# Altium footprint library 可调电阻.PcbLib: 10 footprints
Each footprint in its own frame and in the unit in brackets; x right, y up, seen from the top. Pads: shape width x height; smd on the part's side, far side on the other; paste and mask are expansions set on the pad; w line width, h text height; cw(c..) or ccw(c..) is an arc to the next point about the centre after c.
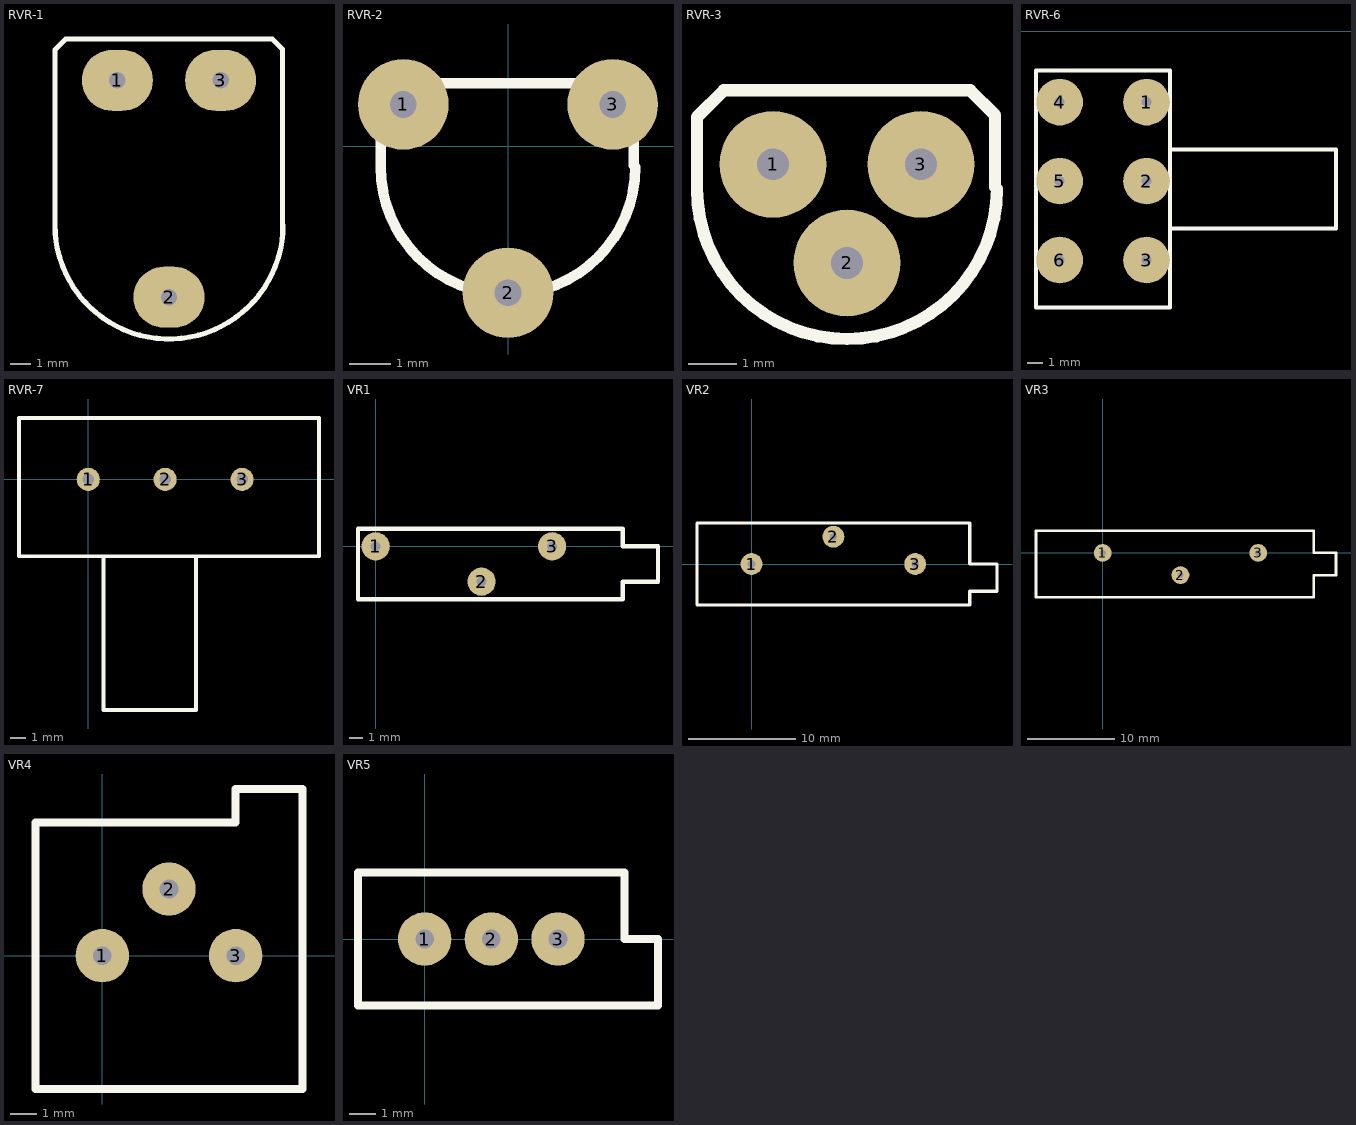
[diagram p0: the footprints below, top view; thin cyan lines are the x and y axes]

## RVR-1 [mm]
pads (3):
  oval 3.5x3 hole 0.8: 1(10.16,-4.572) 2(12.7,-15.24) 3(15.24,-4.572)
TopOverlay:
  lines w0.254: 18.288,-12.192 18.288,-3.048 17.78,-2.54 7.62,-2.54 7.089,-3.071 7.089,-11.684 ccw(c12.7,-11.684) 18.311,-11.684

## RVR-2 [mm]
pads (3):
  round 2.2 hole 0.65: 1(-2.54,1.016) 2(0,-3.556) 3(2.54,1.016)
TopOverlay:
  lines w0.254: 3.048,-0.466 3.048,1.016 2.54,1.524 -2.54,1.524 -3.09,0.974 -3.09,-0.508 ccw(c0,-0.508) 3.09,-0.508

## RVR-3 [mm]
pads (3):
  round 2.2 hole 0.65: 1(3.556,-4.064) 2(5.08,-6.096) 3(6.604,-4.064)
TopOverlay:
  lines w0.254: 8.128,-4.53 8.128,-3.048 7.62,-2.54 2.54,-2.54 1.99,-3.09 1.99,-4.572 ccw(c5.08,-4.572) 8.17,-4.572

## RVR-6 [mm]
pads (6):
  round 3 hole 0.65: 1(11.176,-4.572) 2(11.176,-9.652) 3(11.176,-14.732) 4(5.588,-4.572) 5(5.588,-9.652) 6(5.588,-14.732)
TopOverlay:
  lines w0.254: 12.7,-12.7 23.368,-12.7 23.368,-7.62 12.7,-7.62 ; 4.064,-17.78 12.7,-17.78 12.7,-2.54 4.064,-2.54 4.064,-17.78

## RVR-7 [mil]
pads (3):
  round 60 hole 30: 1(0,0) 2(200,0) 3(400,0)
TopOverlay:
  lines w10: -160,160 600,160 600,-200 -160,-200 -180,-200 -180,160 -120,160 ; 40,-200 40,-600 280,-600 280,-200

## VR1 [mil]
pads (3):
  round 80 hole 28: 1(0,0) 2(300,-100) 3(500,0)
TopOverlay:
  lines w12: -50,-150 -50,50 700,50 700,0 800,0 800,-100 700,-100 700,-150 -50,-150

## VR2 [mil]
pads (3):
  round 80 hole 28: 1(0,0) 2(300,100) 3(600,0)
TopOverlay:
  lines w12: -200,-150 -200,150 800,150 800,0 900,0 900,-100 800,-100 800,-150 -200,-150

## VR3 [mil]
pads (3):
  round 80 hole 28: 1(0,0) 2(350,-100) 3(700,0)
TopOverlay:
  lines w12: -300,-200 950,-200 950,-100 1050,-100 1050,0 950,0 950,100 -300,100 -300,-200

## VR4 [mil]
pads (3):
  round 80 hole 28: 1(0,0) 2(100,100) 3(200,0)
TopOverlay:
  lines w12: -100,-200 300,-200 300,250 200,250 200,200 -100,200 -100,-200

## VR5 [mil]
pads (3):
  round 80 hole 28: 1(0,0) 2(100,0) 3(200,0)
TopOverlay:
  lines w12: -100,-100 -100,100 300,100 300,0 350,0 350,-100 -100,-100